# EAGLE library part 5VLX110FF1153 (library xilinx_spartan3_virtex4_and_5)
Xilinx FPGA
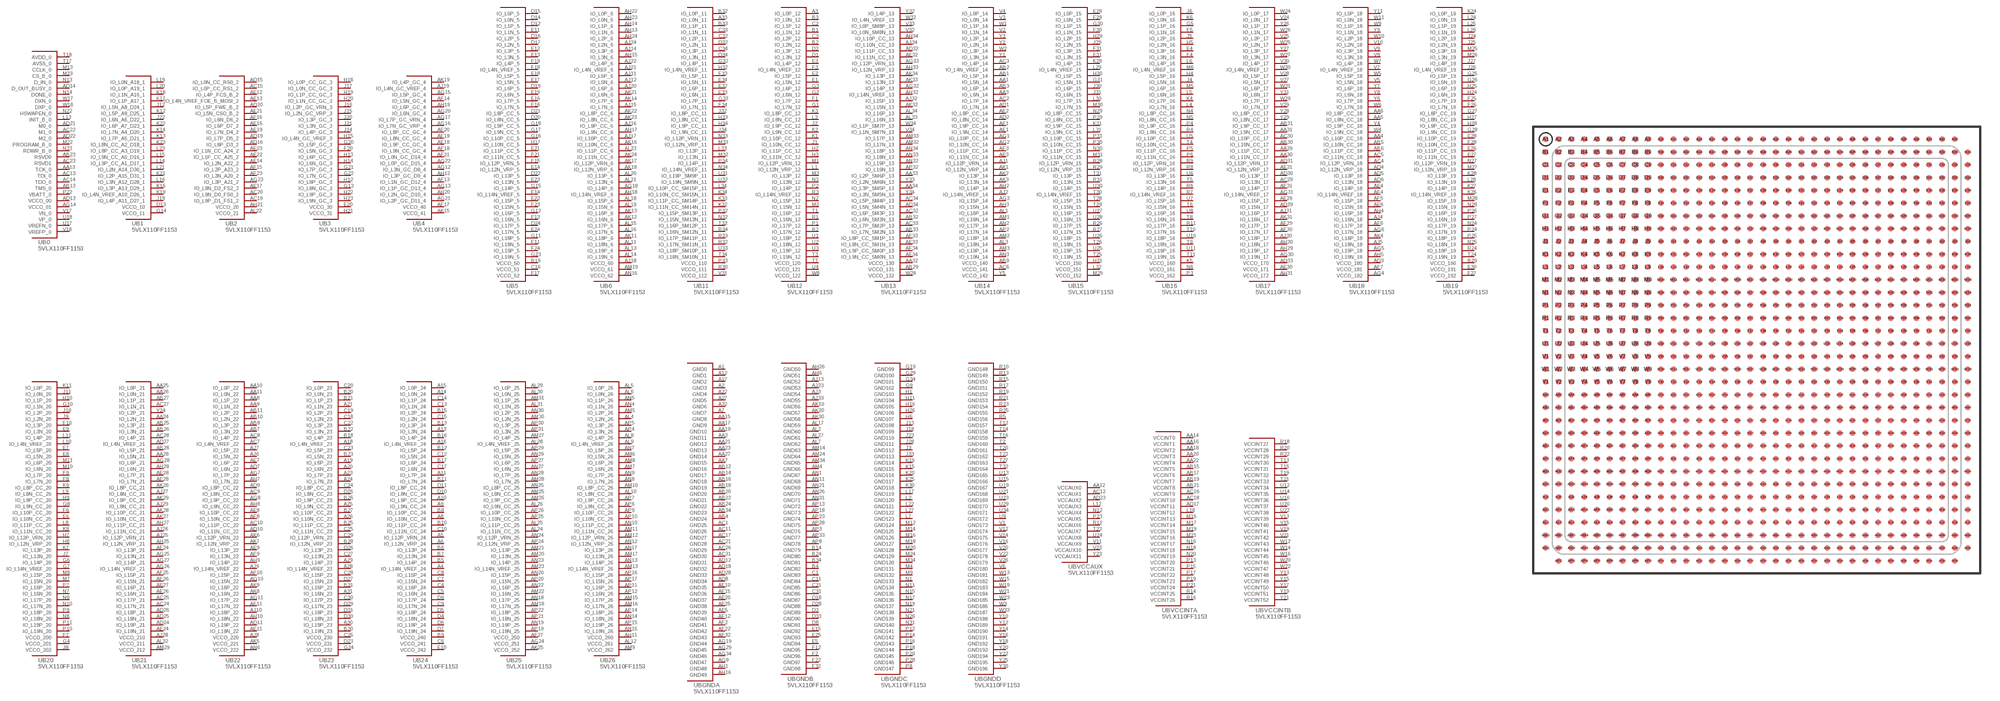
[diagram p99: symbol with the pads of FF1153; footprint FF1153]

Designator prefix U; gates B0=5VLX110FF1153_0 B1=5VLX110FF1153_1 B2=5VLX110FF1153_2 B3=5VLX110FF1153_3 B4=5VLX110FF1153_4 B5=5VLX110FF1153_5 B6=5VLX110FF1153_6 B11=5VLX110FF1153_11 B12=5VLX110FF1153_12 B13=5VLX110FF1153_13 B14=5VLX110FF1153_14 B15=5VLX110FF1153_15 B16=5VLX110FF1153_16 B17=5VLX110FF1153_17 B18=5VLX110FF1153_18 B19=5VLX110FF1153_19 B20=5VLX110FF1153_20 B21=5VLX110FF1153_21 B22=5VLX110FF1153_22 B23=5VLX110FF1153_23 B24=5VLX110FF1153_24 B25=5VLX110FF1153_25 B26=5VLX110FF1153_26 BGNDA=5VLX110FF1153_GNDA BGNDB=5VLX110FF1153_GNDB BGNDC=5VLX110FF1153_GNDC BGNDD=5VLX110FF1153_GNDD BVCCAUX=5VLX110FF1153_VCCAUX BVCCINTA=5VLX110FF1153_VCCINTA BVCCINTB=5VLX110FF1153_VCCINTB

## 5VLX110FF1153  [FF1153]
A1  BGNDA:GND0  pas
A2  BGNDA:GND3  pas
A3  B12:IO_L0P_12
A4  B24:IO_L14N_VREF_24
A5  B24:IO_L12P_VRN_24
A6  B24:IO_L12N_VRP_24
A7  BGNDA:GND7  pas
A8  B24:IO_L10N_CC_24
A9  B24:IO_L9N_CC_24
A10  B24:IO_L9P_CC_24
A11  B24:IO_L7P_24
A12  BGNDA:GND1  pas
A13  B24:IO_L3N_24
A14  B24:IO_L0N_24
A15  B24:IO_L0P_24
A16  B24:IO_L4N_VREF_24
A17  BGNDA:GND2  pas
A18  B23:IO_L4N_VREF_23
A19  B23:IO_L6P_23
A20  B23:IO_L6N_23
A21  B23:IO_L1N_23
A22  BGNDA:GND4  pas
A23  B23:IO_L7P_23
A24  B23:IO_L7N_23
A25  B23:IO_L9N_CC_23
A26  B23:IO_L10N_CC_23
A27  BGNDA:GND5  pas
A28  B23:IO_L14N_VREF_23
A29  B23:IO_L14P_23
A30  B23:IO_L19P_23
A31  B23:IO_L16N_23
A32  BGNDA:GND6  pas
A33  B11:IO_L0N_11
AA1  B14:IO_L5N_14
AA2  BGNDA:GND11  pas
AA3  B14:IO_L6N_14
AA4  B18:IO_L10P_CC_18
AA5  B18:IO_L8N_CC_18
AA6  B18:IO_L8P_CC_18
AA7  BGNDA:GND15  pas
AA8  B22:IO_L1P_22
AA9  B22:IO_L1N_22
AA10  B22:IO_L0P_22
AA11  B22:IO_L0N_22
AA12  BVCCAUX:VCCAUX0  pas
AA13  B0:TCK_0
AA14  BVCCINTA:VCCINT0  pas
AA15  BGNDA:GND8  pas
AA16  BVCCINTA:VCCINT1  pas
AA17  BGNDA:GND9  pas
AA18  BVCCINTA:VCCINT2  pas
AA19  BGNDA:GND10  pas
AA20  BVCCINTA:VCCINT3  pas
AA21  BGNDA:GND12  pas
AA22  BVCCINTA:VCCINT4  pas
AA23  BGNDA:GND13  pas
AA24  B21:IO_L2N_21
AA25  B21:IO_L0P_21
AA26  B21:IO_L0N_21
AA27  BGNDA:GND14  pas
AA28  B21:IO_L5N_21
AA29  B17:IO_L11P_CC_17
AA30  B17:IO_L11N_CC_17
AA31  B17:IO_L9N_CC_17
AA32  B13:VCCO_130  pas
AA33  B13:IO_L2P_SM6P_13
AA34  B13:IO_L3P_SM5P_13
AB1  B14:IO_L5P_14
AB2  B14:IO_L4N_VREF_14
AB3  B14:IO_L6P_14
AB4  BGNDA:GND24  pas
AB5  B18:IO_L10N_CC_18
AB6  B18:IO_L11P_CC_18
AB7  B22:IO_L3N_22
AB8  B22:IO_L3P_22
AB9  B14:VCCO_140  pas
AB10  B22:IO_L2N_22
AB11  B22:IO_L2P_22
AB12  BGNDA:GND16  pas
AB13  B0:TMS_0
AB14  BGNDA:GND17  pas
AB15  BVCCINTA:VCCINT5  pas
AB16  BGNDA:GND18  pas
AB17  BVCCINTA:VCCINT6  pas
AB18  BGNDA:GND19  pas
AB19  BVCCINTA:VCCINT7  pas
AB20  BGNDA:GND20  pas
AB21  BVCCINTA:VCCINT8  pas
AB22  BGNDA:GND21  pas
AB23  B0:RSVD0
AB24  BGNDA:GND22  pas
AB25  B21:IO_L3P_21
AB26  B21:IO_L3N_21
AB27  B21:IO_L1P_21
AB28  B21:IO_L5P_21
AB29  B13:VCCO_131  pas
AB30  B17:IO_L10N_CC_17
AB31  B17:IO_L9P_CC_17
AB32  B13:IO_L6N_SM3N_13
AB33  B13:IO_L7N_SM2N_13
AB34  BGNDA:GND23  pas
AC1  BGNDA:GND25  pas
AC2  B14:IO_L7P_14
AC3  B14:IO_L4P_14
AC4  B18:IO_L12P_VRN_18
AC5  B18:IO_L11N_CC_18
AC6  B14:VCCO_141  pas
AC7  B22:IO_L4N_VREF_22
AC8  B22:IO_L4P_22
AC9  B22:IO_L8N_CC_22
AC10  B22:IO_L11P_CC_22
AC11  BGNDA:GND26  pas
AC12  BVCCAUX:VCCAUX1  pas
AC13  B0:TDI_0
AC14  B0:TDO_0
AC15  B2:IO_L0P_CC_RS1_2
AC16  BVCCINTA:VCCINT9  pas
AC17  BGNDA:GND27  pas
AC18  BVCCINTA:VCCINT10  pas
AC19  B2:IO_L9P_D1_FS1_2
AC20  B2:IO_L9N_D0_FS0_2
AC21  BGNDA:GND28  pas
AC22  B0:M1_0
AC23  B0:RSVD1
AC24  B21:IO_L17N_21
AC25  B21:IO_L17P_21
AC26  BGNDA:GND29  pas
AC27  B21:IO_L1N_21
AC28  B21:IO_L4P_21
AC29  B17:IO_L13N_17
AC30  B17:IO_L10P_CC_17
AC31  BGNDA:GND30  pas
AC32  B13:IO_L6P_SM3P_13
AC33  B13:IO_L7P_SM2P_13
AC34  B13:IO_L5P_SM4P_13
AD1  B14:IO_L7N_14
AD2  B14:IO_L8N_CC_14
AD3  B18:VCCO_180  pas
AD4  B18:IO_L12N_VRP_18
AD5  B18:IO_L13P_18
AD6  B18:IO_L13N_18
AD7  B22:IO_L6N_22
AD8  BGNDA:GND34  pas
AD9  B22:IO_L8P_CC_22
AD10  B22:IO_L11N_CC_22
AD11  B22:IO_L19P_22
AD12  BGNDA:GND31  pas
AD13  B0:VCCO_00  pas
AD14  B0:D_OUT_BUSY_0
AD15  B2:IO_L0N_CC_RS0_2
AD16  B2:IO_L8P_D3_2
AD17  BVCCINTA:VCCINT11  pas
AD18  BGNDA:GND32  pas
AD19  B2:IO_L7P_D5_2
AD20  B2:IO_L5P_FWE_B_2
AD21  B0:M0_0
AD22  B0:M2_0
AD23  BVCCAUX:VCCAUX2  pas
AD24  B21:IO_L19P_21
AD25  B21:IO_L18N_21
AD26  B21:IO_L18P_21
AD27  B21:IO_L4N_VREF_21
AD28  BGNDA:GND33  pas
AD29  B17:IO_L15N_17
AD30  B17:IO_L13P_17
AD31  B17:IO_L12P_VRN_17
AD32  B13:IO_L11P_CC_13
AD33  B17:VCCO_170  pas
AD34  B13:IO_L5N_SM4N_13
AE1  B14:IO_L9N_CC_14
AE2  B14:IO_L8P_CC_14
AE3  B14:IO_L11N_CC_14
AE4  B18:IO_L14P_18
AE5  BGNDA:GND39  pas
AE6  B18:IO_L15N_18
AE7  B22:IO_L6P_22
AE8  B22:IO_L10P_CC_22
AE9  B22:IO_L13P_22
AE10  BGNDA:GND35  pas
AE11  B22:IO_L19N_22
AE12  B2:IO_L4P_FCS_B_2
AE13  B2:IO_L4N_VREF_FOE_B_MOSI_2
AE14  B2:IO_L2N_A22_2
AE15  BGNDA:GND36  pas
AE16  B2:IO_L6P_D7_2
AE17  B2:IO_L8N_D2_FS2_2
AE18  B4:IO_L9P_CC_GC_4
AE19  B2:IO_L7N_D4_2
AE20  BGNDA:GND37  pas
AE21  B2:IO_L5N_CSO_B_2
AE22  B2:IO_L1P_CC_A25_2
AE23  B2:IO_L1N_CC_A24_2
AE24  B21:IO_L19N_21
AE25  BGNDA:GND38  pas
AE26  B21:IO_L16N_21
AE27  B21:IO_L16P_21
AE28  B21:IO_L7P_21
AE29  B17:IO_L15P_17
AE30  B17:VCCO_171  pas
AE31  B17:IO_L12N_VRP_17
AE32  B13:IO_L11N_CC_13
AE33  B13:IO_L8N_CC_SM1N_13
AE34  B13:IO_L9N_CC_SM0N_13
AF1  B14:IO_L9P_CC_14
AF2  BGNDA:GND41  pas
AF3  B14:IO_L11P_CC_14
AF4  B18:IO_L14N_VREF_18
AF5  B18:IO_L15P_18
AF6  B18:IO_L17P_18
AF7  B18:VCCO_181  pas
AF8  B22:IO_L10N_CC_22
AF9  B22:IO_L13N_22
AF10  B22:IO_L15P_22
AF11  B22:IO_L17N_22
AF12  BGNDA:GND40  pas
AF13  B4:IO_L1N_GC_D12_4
AF14  B4:IO_L5N_GC_4
AF15  B2:IO_L2P_A23_2
AF16  B2:IO_L6N_D6_2
AF17  B4:VCCO_40  pas
AF18  B4:IO_L9N_CC_GC_4
AF19  B4:IO_L8N_CC_GC_4
AF20  B4:IO_L8P_CC_GC_4
AF21  B4:IO_L0N_GC_D14_4
AF22  BGNDA:GND42  pas
AF23  B2:IO_L3N_A20_2
AF24  B21:IO_L13P_21
AF25  B21:IO_L15P_21
AF26  B21:IO_L15N_21
AF27  B25:VCCO_250  pas
AF28  B21:IO_L7N_21
AF29  B17:IO_L17P_17
AF30  B17:IO_L17N_17
AF31  B17:IO_L14P_17
AF32  BGNDA:GND43  pas
AF33  B13:IO_L8P_CC_SM1P_13
AF34  B13:IO_L9P_CC_SM0P_13
AG1  B14:IO_L10P_CC_14
AG2  B14:IO_L10N_CC_14
AG3  B14:IO_L15P_14
AG4  B18:VCCO_182  pas
AG5  B18:IO_L19P_18
AG6  B18:IO_L17N_18
AG7  B22:IO_L7P_22
AG8  B22:IO_L9P_CC_22
AG9  BGNDA:GND47  pas
AG10  B22:IO_L15N_22
AG11  B22:IO_L17P_22
AG12  B4:IO_L3N_GC_D8_4
AG13  B4:IO_L1P_GC_D13_4
AG14  B0:VCCO_01  pas
AG15  B4:IO_L5P_GC_4
AG16  B4:IO_L7N_GC_VRP_4
AG17  B4:IO_L7P_GC_VRN_4
AG18  B6:IO_L14P_6
AG19  BGNDA:GND44  pas
AG20  B4:IO_L6N_GC_4
AG21  B4:IO_L2P_GC_D11_4
AG22  B4:IO_L0P_GC_D15_4
AG23  B2:IO_L3P_A21_2
AG24  B25:VCCO_251  pas
AG25  B21:IO_L13N_21
AG26  B21:IO_L14N_VREF_21
AG27  B21:IO_L14P_21
AG28  B21:IO_L6P_21
AG29  BGNDA:GND45  pas
AG30  B17:IO_L19N_17
AG31  B17:IO_L14N_VREF_17
AG32  B13:IO_L14P_13
AG33  B13:IO_L12P_VRN_13
AG34  BGNDA:GND46  pas
AH1  BGNDA:GND48  pas
AH2  B14:IO_L14P_14
AH3  B14:IO_L15N_14
AH4  B18:IO_L16P_18
AH5  B18:IO_L19N_18
AH6  BGNDB:GND51  pas
AH7  B22:IO_L7N_22
AH8  B22:IO_L9N_CC_22
AH9  B22:IO_L14P_22
AH10  B22:IO_L18N_22
AH11  B26:VCCO_260  pas
AH12  B4:IO_L3P_GC_D9_4
AH13  B6:IO_L1N_6
AH14  B6:IO_L1P_6
AH15  B6:IO_L3N_6
AH16  BGNDA:GND49  pas
AH17  B6:IO_L9N_CC_6
AH18  B6:IO_L14N_VREF_6
AH19  B4:IO_L6P_GC_4
AH20  B4:IO_L2N_GC_D10_4
AH21  B2:VCCO_20  pas
AH22  B6:IO_L0P_6
AH23  B6:IO_L0N_6
AH24  B6:IO_L2P_6
AH25  B21:IO_L12N_VRP_21
AH26  BGNDB:GND50  pas
AH27  B21:IO_L11P_CC_21
AH28  B21:IO_L6N_21
AH29  B17:IO_L19P_17
AH30  B17:IO_L18N_17
AH31  B17:VCCO_172  pas
AH32  B13:IO_L14N_VREF_13
AH33  B13:IO_L12N_VRP_13
AH34  B13:IO_L10P_CC_13
AJ1  B14:IO_L12P_VRN_14
AJ2  B14:IO_L14N_VREF_14
AJ3  BGNDB:GND54  pas
AJ4  B18:IO_L16N_18
AJ5  B18:IO_L18N_18
AJ6  B22:IO_L5N_22
AJ7  B22:IO_L5P_22
AJ8  B22:VCCO_220  pas
AJ9  B22:IO_L14N_VREF_22
AJ10  B22:IO_L18P_22
AJ11  B6:IO_L5P_6
AJ12  B6:IO_L5N_6
AJ13  BGNDB:GND52  pas
AJ14  B6:IO_L3P_6
AJ15  B6:IO_L7N_6
AJ16  B6:IO_L9P_CC_6
AJ17  B6:IO_L10P_CC_6
AJ18  B6:VCCO_60  pas
AJ19  B4:IO_L4N_GC_VREF_4
AJ20  B6:IO_L6P_6
AJ21  B6:IO_L4N_VREF_6
AJ22  B6:IO_L4P_6
AJ23  BGNDB:GND53  pas
AJ24  B6:IO_L2N_6
AJ25  B21:IO_L12P_VRN_21
AJ26  B21:IO_L11N_CC_21
AJ27  B21:IO_L8N_CC_21
AJ28  B21:VCCO_210  pas
AJ29  B21:IO_L9N_CC_21
AJ30  B17:IO_L18P_17
AJ31  B17:IO_L16P_17
AJ32  B13:IO_L15P_13
AJ33  BGNDB:GND55  pas
AJ34  B13:IO_L10N_CC_13
AK1  B14:IO_L12N_VRP_14
AK2  B14:IO_L13P_14
AK3  B14:IO_L13N_14
AK4  B18:IO_L18P_18
AK5  B22:VCCO_221  pas
AK6  B22:IO_L12P_VRN_22
AK7  B22:IO_L12N_VRP_22
AK8  B22:IO_L16N_22
AK9  B22:IO_L16P_22
AK10  BGNDB:GND56  pas
AK11  B6:IO_L18P_6
AK12  B6:IO_L16N_6
AK13  B6:IO_L16P_6
AK14  B6:IO_L7P_6
AK15  B4:VCCO_41  pas
AK16  B6:IO_L10N_CC_6
AK17  B6:IO_L12P_VRN_6
AK18  B6:IO_L12N_VRP_6
AK19  B4:IO_L4P_GC_4
AK20  BGNDB:GND57  pas
AK21  B6:IO_L6N_6
AK22  B6:IO_L8P_CC_6
AK23  B6:IO_L8N_CC_6
AK24  B6:IO_L11N_CC_6
AK25  B25:VCCO_252  pas
AK26  B21:IO_L8P_CC_21
AK27  B21:IO_L10N_CC_21
AK28  B21:IO_L10P_CC_21
AK29  B21:IO_L9P_CC_21
AK30  BGNDB:GND58  pas
AK31  B17:IO_L16N_17
AK32  B13:IO_L15N_13
AK33  B13:IO_L13N_13
AK34  B13:IO_L13P_13
AL1  B14:IO_L16P_14
AL2  BGNDB:GND60  pas
AL3  B14:IO_L18N_14
AL4  B26:IO_L2N_26
AL5  B26:IO_L0P_26
AL6  B26:IO_L0N_26
AL7  BGNDB:GND62  pas
AL8  B26:IO_L4P_26
AL9  B26:IO_L4N_VREF_26
AL10  B26:IO_L8N_CC_26
AL11  B6:IO_L18N_6
AL12  B26:VCCO_261  pas
AL13  B6:IO_L19P_6
AL14  B6:IO_L19N_6
AL15  B6:IO_L17P_6
AL16  B6:IO_L17N_6
AL17  BGNDB:GND59  pas
AL18  B6:IO_L15P_6
AL19  B6:IO_L15N_6
AL20  B6:IO_L13P_6
AL21  B6:IO_L13N_6
AL22  B2:VCCO_21  pas
AL23  B6:IO_L11P_CC_6
AL24  B25:IO_L11N_CC_25
AL25  B25:IO_L11P_CC_25
AL26  B25:IO_L9N_CC_25
AL27  BGNDB:GND61  pas
AL28  B25:IO_L4N_VREF_25
AL29  B25:IO_L0P_25
AL30  B25:IO_L0N_25
AL31  B25:IO_L1N_25
AL32  B21:VCCO_211  pas
AL33  B13:IO_L16N_13
AL34  B13:IO_L16P_13
AM1  B14:IO_L16N_14
AM2  B14:IO_L18P_14
AM3  B14:IO_L19P_14
AM4  BGNDB:GND66  pas
AM5  B26:IO_L2P_26
AM6  B26:IO_L5N_26
AM7  B26:IO_L6N_26
AM8  B26:IO_L6P_26
AM9  B26:VCCO_262  pas
AM10  B26:IO_L8P_CC_26
AM11  B26:IO_L11N_CC_26
AM12  B26:IO_L12P_VRN_26
AM13  B26:IO_L14N_VREF_26
AM14  BGNDB:GND63  pas
AM15  B26:IO_L17P_26
AM16  B26:IO_L17N_26
AM17  B26:IO_L13N_26
AM18  B25:IO_L17N_25
AM19  B6:VCCO_61  pas
AM20  B25:IO_L13N_25
AM21  B25:IO_L13P_25
AM22  B25:IO_L16N_25
AM23  B25:IO_L14N_VREF_25
AM24  BGNDB:GND64  pas
AM25  B25:IO_L8N_CC_25
AM26  B25:IO_L9P_CC_25
AM27  B25:IO_L4P_25
AM28  B25:IO_L7N_25
AM29  B21:VCCO_212  pas
AM30  B25:IO_L2N_25
AM31  B25:IO_L1P_25
AM32  B13:IO_L17N_13
AM33  B13:IO_L17P_13
AM34  BGNDB:GND65  pas
AN1  BGNDB:GND67  pas
AN2  B14:IO_L17P_14
AN3  B14:IO_L19N_14
AN4  B26:IO_L1N_26
AN5  B26:IO_L1P_26
AN6  B22:VCCO_222  pas
AN7  B26:IO_L5P_26
AN8  B26:IO_L7N_26
AN9  B26:IO_L7P_26
AN10  B26:IO_L11P_CC_26
AN11  BGNDB:GND68  pas
AN12  B26:IO_L12N_VRP_26
AN13  B26:IO_L14P_26
AN14  B26:IO_L18N_26
AN15  B26:IO_L19N_26
AN16  B6:VCCO_62  pas
AN17  B26:IO_L13P_26
AN18  B25:IO_L17P_25
AN19  B25:IO_L19P_25
AN20  B25:IO_L15P_25
AN21  BGNDB:GND69  pas
AN22  B25:IO_L16P_25
AN23  B25:IO_L14P_25
AN24  B25:IO_L12P_VRN_25
AN25  B25:IO_L8P_CC_25
AN26  BGNDB:GND70  pas
AN27  B25:IO_L6N_25
AN28  B25:IO_L7P_25
AN29  B25:IO_L5N_25
AN30  B25:IO_L2P_25
AN31  BGNDB:GND71  pas
AN32  B13:IO_L19P_13
AN33  B13:IO_L18N_13
AN34  B13:IO_L18P_13
AP2  B14:IO_L17N_14
AP3  BGNDB:GND76  pas
AP4  B26:IO_L3N_26
AP5  B26:IO_L3P_26
AP6  B26:IO_L9N_CC_26
AP7  B26:IO_L9P_CC_26
AP8  BGNDB:GND78  pas
AP9  B26:IO_L10P_CC_26
AP10  B26:IO_L10N_CC_26
AP11  B26:IO_L16P_26
AP12  B26:IO_L16N_26
AP13  BGNDB:GND72  pas
AP14  B26:IO_L18P_26
AP15  B26:IO_L19P_26
AP16  B26:IO_L15P_26
AP17  B26:IO_L15N_26
AP18  BGNDB:GND73  pas
AP19  B25:IO_L19N_25
AP20  B25:IO_L15N_25
AP21  B25:IO_L18N_25
AP22  B25:IO_L18P_25
AP23  BGNDB:GND74  pas
AP24  B25:IO_L12N_VRP_25
AP25  B25:IO_L10N_CC_25
AP26  B25:IO_L10P_CC_25
AP27  B25:IO_L6P_25
AP28  BGNDB:GND75  pas
AP29  B25:IO_L5P_25
AP30  B25:IO_L3P_25
AP31  B25:IO_L3N_25
AP32  B13:IO_L19N_13
AP33  BGNDB:GND77  pas
B1  B12:IO_L1N_12
B2  B12:IO_L2N_12
B3  B12:IO_L0N_12
B4  BGNDB:GND82  pas
B5  B24:IO_L14P_24
B6  B24:IO_L13P_24
B7  B24:IO_L13N_24
B8  B24:IO_L10P_CC_24
B9  B24:VCCO_240  pas
B10  B24:IO_L11P_CC_24
B11  B24:IO_L7N_24
B12  B24:IO_L5P_24
B13  B24:IO_L3P_24
B14  BGNDB:GND79  pas
B15  B24:IO_L2P_24
B16  B24:IO_L4P_24
B17  B24:IO_L6P_24
B18  B23:IO_L4P_23
B19  B5:VCCO_50  pas
B20  B23:IO_L0N_23
B21  B23:IO_L1P_23
B22  B23:IO_L3N_23
B23  B23:IO_L5N_23
B24  BGNDB:GND80  pas
B25  B23:IO_L11P_CC_23
B26  B23:IO_L9P_CC_23
B27  B23:IO_L10P_CC_23
B28  B23:IO_L12N_VRP_23
B29  B19:VCCO_190  pas
B30  B23:IO_L19N_23
B31  B23:IO_L16P_23
B32  B11:IO_L0P_11
B33  B11:IO_L1P_11
B34  BGNDB:GND81  pas
C1  BGNDB:GND83  pas
C2  B12:IO_L1P_12
C3  B12:IO_L2P_12
C4  B24:IO_L16P_24
C5  B24:IO_L16N_24
C6  B24:VCCO_241  pas
C7  B24:IO_L15N_24
C8  B24:IO_L15P_24
C9  B24:IO_L17N_24
C10  B24:IO_L11N_CC_24
C11  BGNDB:GND84  pas
C12  B24:IO_L5N_24
C13  B24:IO_L1N_24
C14  B24:IO_L1P_24
C15  B24:IO_L2N_24
C16  B5:VCCO_51  pas
C17  B24:IO_L6N_24
C18  B23:IO_L2N_23
C19  B23:IO_L2P_23
C20  B23:IO_L0P_23
C21  BGNDB:GND85  pas
C22  B23:IO_L3P_23
C23  B23:IO_L5P_23
C24  B23:IO_L8P_CC_23
C25  B23:IO_L11N_CC_23
C26  B23:VCCO_230  pas
C27  B23:IO_L13N_23
C28  B23:IO_L15P_23
C29  B23:IO_L12P_VRN_23
C30  B23:IO_L17P_23
C31  BGNDB:GND86  pas
C32  B11:IO_L2P_11
C33  B11:IO_L1N_11
C34  B11:IO_L3P_11
D1  B12:IO_L3N_12
D2  B12:IO_L3P_12
D3  BGNDB:GND89  pas
D4  B24:IO_L18N_24
D5  B24:IO_L18P_24
D6  B24:IO_L19P_24
D7  B24:IO_L19N_24
D8  BGNDB:GND91  pas
D9  B24:IO_L17P_24
D10  B24:IO_L8N_CC_24
D11  B24:IO_L8P_CC_24
D12  B5:IO_L1P_5
D13  B1:VCCO_10  pas
D14  B5:IO_L0N_5
D15  B5:IO_L0P_5
D16  B5:IO_L2P_5
D17  B5:IO_L2N_5
D18  BGNDB:GND87  pas
D19  B5:IO_L6P_5
D20  B5:IO_L8N_CC_5
D21  B5:IO_L8P_CC_5
D22  B5:IO_L13P_5
D23  B23:VCCO_231  pas
D24  B5:IO_L17P_5
D25  B23:IO_L8N_CC_23
D26  B23:IO_L13P_23
D27  B23:IO_L15N_23
D28  BGNDB:GND88  pas
D29  B23:IO_L17N_23
D30  B23:IO_L18N_23
D31  B23:IO_L18P_23
D32  B11:IO_L2N_11
D33  BGNDB:GND90  pas
D34  B11:IO_L3N_11
E1  B12:IO_L5N_12
E2  B12:IO_L5P_12
E3  B12:IO_L4P_12
E4  B16:IO_L3P_16
E5  BGNDB:GND94  pas
E6  B20:IO_L10N_CC_20
E7  B20:IO_L5P_20
E8  B20:IO_L5N_20
E9  B20:IO_L3N_20
E10  B24:VCCO_242  pas
E11  B5:IO_L1N_5
E12  B5:IO_L3P_5
E13  B5:IO_L3N_5
E14  B5:IO_L12N_VRP_5
E15  BGNDB:GND92  pas
E16  B5:IO_L7P_5
E17  B5:IO_L5N_5
E18  B5:IO_L5P_5
E19  B5:IO_L6N_5
E20  B3:VCCO_30  pas
E21  B5:IO_L11P_CC_5
E22  B5:IO_L15P_5
E23  B5:IO_L13N_5
E24  B5:IO_L17N_5
E25  BGNDB:GND93  pas
E26  B19:IO_L11P_CC_19
E27  B19:IO_L11N_CC_19
E28  B19:IO_L10P_CC_19
E29  B15:IO_L0P_15
E30  B19:VCCO_191  pas
E31  B15:IO_L3N_15
E32  B11:IO_L6P_11
E33  B11:IO_L6N_11
E34  B11:IO_L5N_11
F1  B12:IO_L7P_12
F2  BGNDB:GND96  pas
F3  B12:IO_L4N_VREF_12
F4  B16:IO_L3N_16
F5  B16:IO_L1N_16
F6  B20:IO_L10P_CC_20
F7  B20:VCCO_200  pas
F8  B20:IO_L7N_20
F9  B20:IO_L7P_20
F10  B20:IO_L3P_20
F11  B5:IO_L18N_5
F12  BGNDB:GND95  pas
F13  B5:IO_L16N_5
F14  B5:IO_L14N_VREF_5
F15  B5:IO_L12P_VRN_5
F16  B5:IO_L7N_5
F17  B5:VCCO_52  pas
F18  B5:IO_L4N_VREF_5
F19  B5:IO_L4P_5
F20  B3:IO_L5N_GC_3
F21  B5:IO_L11N_CC_5
F22  BGNDB:GND97  pas
F23  B5:IO_L15N_5
F24  B5:IO_L19P_5
F25  B19:IO_L7P_19
F26  B19:IO_L7N_19
F27  B19:VCCO_192  pas
F28  B19:IO_L10N_CC_19
F29  B15:IO_L0N_15
F30  B15:IO_L1N_15
F31  B15:IO_L3P_15
F32  BGNDB:GND98  pas
F33  B11:IO_L5P_11
F34  B11:IO_L7N_11
G1  B12:IO_L7N_12
G2  B12:IO_L6N_12
G3  B12:IO_L6P_12
G4  B20:VCCO_201  pas
G5  B16:IO_L1P_16
G6  B20:IO_L14P_20
G7  B20:IO_L14N_VREF_20
G8  B20:IO_L9N_CC_20
G9  BGNDC:GND102  pas
G10  B20:IO_L1N_20
G11  B5:IO_L18P_5
G12  B5:IO_L16P_5
G13  B3:IO_L8N_GC_3
G14  B1:VCCO_11  pas
G15  B5:IO_L14P_5
G16  B5:IO_L10P_CC_5
G17  B5:IO_L9N_CC_5
G18  B5:IO_L9P_CC_5
G19  BGNDC:GND99  pas
G20  B3:IO_L5P_GC_3
G21  B3:IO_L7P_GC_3
G22  B3:IO_L7N_GC_3
G23  B5:IO_L19N_5
G24  B23:VCCO_232  pas
G25  B19:IO_L5P_19
G26  B19:IO_L5N_19
G27  B19:IO_L8P_CC_19
G28  B19:IO_L9N_CC_19
G29  BGNDC:GND100  pas
G30  B15:IO_L1P_15
G31  B15:IO_L5N_15
G32  B11:IO_L4P_11
G33  B11:IO_L7P_11
G34  BGNDC:GND101  pas
H1  BGNDC:GND103  pas
H2  B12:IO_L11P_CC_12
H3  B12:IO_L11N_CC_12
H4  B16:IO_L5P_16
H5  B16:IO_L2N_16
H6  BGNDC:GND107  pas
H7  B20:IO_L12P_VRN_20
H8  B20:IO_L12N_VRP_20
H9  B20:IO_L9P_CC_20
H10  B20:IO_L1P_20
H11  BGNDC:GND104  pas
H12  B3:IO_L8P_GC_3
H13  B3:IO_L6P_GC_3
H14  B3:IO_L6N_GC_3
H15  B3:IO_L4N_GC_VREF_3
H16  BGNDC:GND105  pas
H17  B5:IO_L10N_CC_5
H18  B3:IO_L0P_CC_GC_3
H19  B3:IO_L1P_CC_GC_3
H20  B3:IO_L1N_CC_GC_3
H21  B3:VCCO_31  pas
H22  B3:IO_L9P_GC_3
H23  B3:IO_L9N_GC_3
H24  B19:IO_L6N_19
H25  B19:IO_L6P_19
H26  BGNDC:GND106  pas
H27  B19:IO_L8N_CC_19
H28  B19:IO_L9P_CC_19
H29  B15:IO_L2P_15
H30  B15:IO_L5P_15
H31  B15:VCCO_150  pas
H32  B11:IO_L4N_VREF_11
H33  B11:IO_L8N_CC_11
H34  B11:IO_L9P_CC_11
J1  B12:IO_L10N_CC_12
J2  B12:IO_L9P_CC_12
J3  BGNDC:GND112  pas
J4  B16:IO_L5N_16
J5  B16:IO_L2P_16
J6  B16:IO_L0P_16
J7  B20:IO_L13N_20
J8  B20:VCCO_202  pas
J9  B20:IO_L2N_20
J10  B20:IO_L2P_20
J11  B20:IO_L0N_20
J12  B1:IO_L5N_A8_D24_1
J13  BGNDC:GND108  pas
J14  B3:IO_L4P_GC_3
J15  B3:IO_L2N_GC_VRP_3
J16  B3:IO_L2P_GC_VRN_3
J17  B3:IO_L0N_CC_GC_3
J18  BGNDC:GND109  pas
J19  B1:IO_L4P_A11_D27_1
J20  B3:IO_L3P_GC_3
J21  B3:IO_L3N_GC_3
J22  B1:IO_L6N_A6_D22_1
J23  BGNDC:GND110  pas
J24  B19:IO_L2P_19
J25  B19:IO_L2N_19
J26  B19:IO_L4N_VREF_19
J27  B19:IO_L4P_19
J28  BGNDC:GND111  pas
J29  B15:IO_L2N_15
J30  B15:IO_L6P_15
J31  B15:IO_L6N_15
J32  B11:IO_L8P_CC_11
J33  BGNDC:GND113  pas
J34  B11:IO_L9N_CC_11
K1  B12:IO_L10P_CC_12
K2  B12:IO_L9N_CC_12
K3  B12:IO_L8P_CC_12
K4  B16:IO_L7P_16
K5  B16:VCCO_160  pas
K6  B16:IO_L0N_16
K7  B20:IO_L13P_20
K8  B20:IO_L11N_CC_20
K9  B20:IO_L8P_CC_20
K10  BGNDC:GND114  pas
K11  B20:IO_L0P_20
K12  B1:IO_L5P_A9_D25_1
K13  B1:IO_L7P_A5_D21_1
K14  B1:IO_L7N_A4_D20_1
K15  BGNDC:GND115  pas
K16  B1:IO_L3P_A13_D29_1
K17  B1:IO_L1P_A17_1
K18  B1:IO_L1N_A16_1
K19  B1:IO_L4N_VREF_A10_D26_1
K20  BGNDC:GND116  pas
K21  B1:IO_L2P_A15_D31_1
K22  B1:IO_L6P_A7_D23_1
K23  B1:IO_L8N_CC_A2_D18_1
K24  B19:IO_L0P_19
K25  BGNDC:GND117  pas
K26  B19:IO_L14N_VREF_19
K27  B19:IO_L14P_19
K28  B19:IO_L13P_19
K29  B15:IO_L4P_15
K30  BGNDC:GND118  pas
K31  B15:IO_L9P_CC_15
K32  B11:IO_L11N_CC_SM14N_11
K33  B11:IO_L11P_CC_SM14P_11
K34  B11:IO_L10N_CC_SM15N_11
L1  B12:IO_L12N_VRP_12
L2  BGNDC:GND120  pas
L3  B12:IO_L8N_CC_12
L4  B16:IO_L7N_16
L5  B16:IO_L6N_16
L6  B16:IO_L4P_16
L7  BGNDC:GND123  pas
L8  B20:IO_L11P_CC_20
L9  B20:IO_L8N_CC_20
L10  B20:IO_L4N_VREF_20
L11  B20:IO_L4P_20
L12  BVCCAUX:VCCAUX3  pas
L13  B0:INIT_B_0
L14  B1:IO_L9P_CC_A1_D17_1
L15  B1:IO_L9N_CC_A0_D16_1
L16  B1:IO_L3N_A12_D28_1
L17  BGNDC:GND119  pas
L18  BVCCINTA:VCCINT12  pas
L19  B1:IO_L0N_A18_1
L20  B1:IO_L0P_A19_1
L21  B1:IO_L2N_A14_D30_1
L22  BGNDC:GND121  pas
L23  B1:IO_L8P_CC_A3_D19_1
L24  B19:IO_L0N_19
L25  B19:IO_L1P_19
L26  B19:IO_L1N_19
L27  BGNDC:GND122  pas
L28  B19:IO_L13N_19
L29  B15:IO_L4N_VREF_15
L30  B15:IO_L7P_15
L31  B15:IO_L9N_CC_15
L32  B15:VCCO_151  pas
L33  B11:IO_L13P_11
L34  B11:IO_L10P_CC_SM15P_11
M1  B12:IO_L12P_VRN_12
M2  B12:IO_L15N_12
M3  B12:IO_L13P_12
M4  BGNDC:GND131  pas
M5  B16:IO_L6P_16
M6  B16:IO_L4N_VREF_16
M7  B20:IO_L15N_20
M8  B20:IO_L15P_20
M9  BGNDC:GND132  pas
M10  B20:IO_L6N_20
M11  B20:IO_L6P_20
M12  BGNDC:GND124  pas
M13  B0:CCLK_0
M14  BGNDC:GND125  pas
M15  BVCCINTA:VCCINT13  pas
M16  BGNDC:GND126  pas
M17  BVCCINTA:VCCINT14  pas
M18  BGNDC:GND127  pas
M19  BVCCINTA:VCCINT15  pas
M20  BGNDC:GND128  pas
M21  BVCCINTA:VCCINT16  pas
M22  B0:PROGRAM_B_0
M23  B0:CS_B_0
M24  BGNDC:GND129  pas
M25  B19:IO_L3P_19
M26  B19:IO_L3N_19
M27  B19:IO_L12N_VRP_19
M28  B19:IO_L15P_19
M29  B15:VCCO_152  pas
M30  B15:IO_L7N_15
M31  B15:IO_L11N_CC_15
M32  B11:IO_L13N_11
M33  B11:IO_L12N_VRP_11
M34  BGNDC:GND130  pas
N1  BGNDC:GND133  pas
N2  B12:IO_L15P_12
N3  B12:IO_L13N_12
N4  B16:IO_L8P_CC_16
N5  B16:IO_L8N_CC_16
N6  B16:VCCO_161  pas
N7  B20:IO_L16N_20
N8  B20:IO_L18N_20
N9  B20:IO_L17P_20
N10  B20:IO_L17N_20
N11  BGNDC:GND134  pas
N12  BVCCAUX:VCCAUX4  pas
N13  B0:D_IN_0
N14  B0:DONE_0
N15  BGNDC:GND135  pas
N16  BVCCINTA:VCCINT17  pas
N17  BGNDC:GND136  pas
N18  BVCCINTA:VCCINT18  pas
N19  BGNDC:GND137  pas
N20  BVCCINTA:VCCINT19  pas
N21  BGNDC:GND138  pas
N22  B0:HSWAPEN_0
N23  B0:RDWR_B_0
N24  B19:IO_L17P_19
N25  B19:IO_L18N_19
N26  BGNDC:GND139  pas
N27  B19:IO_L12P_VRN_19
N28  B19:IO_L15N_19
N29  B15:IO_L8P_CC_15
N30  B15:IO_L11P_CC_15
N31  BGNDC:GND140  pas
N32  B11:IO_L15N_SM13N_11
N33  B11:IO_L12P_VRN_11
N34  B11:IO_L14N_VREF_11
P1  B12:IO_L17P_12
P2  B12:IO_L14P_12
P3  B16:VCCO_162  pas
P4  B16:IO_L9P_CC_16
P5  B16:IO_L11P_CC_16
P6  B16:IO_L11N_CC_16
P7  B20:IO_L16P_20
P8  BGNDC:GND147  pas
P9  B20:IO_L18P_20
P10  B20:IO_L19N_20
P11  B20:IO_L19P_20
P12  BGNDC:GND141  pas
P13  BVCCINTA:VCCINT20  pas
P14  BGNDC:GND142  pas
P15  BVCCINTA:VCCINT21  pas
P16  BGNDC:GND143  pas
P17  BVCCINTA:VCCINT22  pas
P18  BGNDC:GND144  pas
P19  BVCCINTA:VCCINT23  pas
P20  BGNDC:GND145  pas
P21  BVCCINTA:VCCINT24  pas
P22  B0:VBATT_0
P23  BVCCAUX:VCCAUX5  pas
P24  B19:IO_L17N_19
P25  B19:IO_L18P_19
P26  B19:IO_L16P_19
P27  B19:IO_L16N_19
P28  BGNDC:GND146  pas
P29  B15:IO_L8N_CC_15
P30  B15:IO_L10N_CC_15
P31  B15:IO_L10P_CC_15
P32  B11:IO_L15P_SM13P_11
P33  B11:VCCO_110  pas
P34  B11:IO_L14P_11
R1  B12:IO_L16N_12
R2  B12:IO_L17N_12
R3  B12:IO_L14N_VREF_12
R4  B16:IO_L9N_CC_16
R5  BGNDD:GND156  pas
R6  B16:IO_L14P_16
R7  B16:IO_L14N_VREF_16
R8  B16:IO_L12N_VRP_16
R9  B16:IO_L12P_VRN_16
R10  BGNDD:GND148  pas
R11  B16:IO_L17P_16
R12  BVCCAUX:VCCAUX6  pas
R13  BGNDD:GND149  pas
R14  BVCCINTA:VCCINT25  pas
R15  BGNDD:GND150  pas
R16  BVCCINTA:VCCINT26  pas
R17  BGNDD:GND151  pas
R18  BVCCINTB:VCCINT27  pas
R19  BGNDD:GND152  pas
R20  BVCCINTB:VCCINT28  pas
R21  BGNDD:GND153  pas
R22  BVCCINTB:VCCINT29  pas
R23  BGNDD:GND154  pas
R24  B19:IO_L19P_19
R25  BGNDD:GND155  pas
R26  B15:IO_L17P_15
R27  B15:IO_L17N_15
R28  B15:IO_L12P_VRN_15
R29  B15:IO_L12N_VRP_15
R30  B11:VCCO_111  pas
R31  B15:IO_L13N_15
R32  B11:IO_L17N_SM11N_11
R33  B11:IO_L17P_SM11P_11
R34  B11:IO_L16N_SM12N_11
T1  B12:IO_L16P_12
T2  BGNDD:GND160  pas
T3  B12:IO_L19N_12
T4  B16:IO_L10N_CC_16
T5  B16:IO_L13N_16
T6  B16:IO_L15N_16
T7  B12:VCCO_120  pas
T8  B16:IO_L16N_16
T9  B16:IO_L18N_16
T10  B16:IO_L17N_16
T11  B16:IO_L19N_16
T12  BGNDD:GND157  pas
T13  BVCCINTB:VCCINT30  pas
T14  BGNDD:GND158  pas
T15  BVCCINTB:VCCINT31  pas
T16  BGNDD:GND159  pas
T17  B0:AVSS_0
T18  B0:AVDD_0
T19  BVCCINTB:VCCINT32  pas
T20  BGNDD:GND161  pas
T21  BVCCINTB:VCCINT33  pas
T22  BGNDD:GND162  pas
T23  BVCCAUX:VCCAUX7  pas
T24  B19:IO_L19N_19
T25  B15:IO_L19N_15
T26  B15:IO_L18N_15
T27  BGNDD:GND163  pas
T28  B15:IO_L15P_15
T29  B15:IO_L15N_15
T30  B15:IO_L14N_VREF_15
T31  B15:IO_L13P_15
T32  BGNDD:GND164  pas
T33  B11:IO_L16P_SM12P_11
T34  B11:IO_L18N_SM10N_11
U1  B12:IO_L18P_12
U2  B12:IO_L18N_12
U3  B12:IO_L19P_12
U4  B12:VCCO_121  pas
U5  B16:IO_L10P_CC_16
U6  B16:IO_L13P_16
U7  B16:IO_L15P_16
U8  B16:IO_L16P_16
U9  BGNDD:GND172  pas
U10  B16:IO_L18P_16
U11  B16:IO_L19P_16
U12  BVCCINTB:VCCINT34  pas
U13  BGNDD:GND165  pas
U14  BVCCINTB:VCCINT35  pas
U15  BGNDD:GND166  pas
U16  BVCCINTB:VCCINT36  pas
U17  B0:VREFN_0
U18  B0:VP_0
U19  BGNDD:GND167  pas
U20  BVCCINTB:VCCINT37  pas
U21  BGNDD:GND168  pas
U22  BVCCINTB:VCCINT38  pas
U23  BGNDD:GND169  pas
U24  BVCCAUX:VCCAUX8  pas
U25  B15:IO_L19P_15
U26  B15:IO_L18P_15
U27  B15:IO_L16P_15
U28  B15:IO_L16N_15
U29  BGNDD:GND170  pas
U30  B15:IO_L14P_15
U31  B11:IO_L19P_SM9P_11
U32  B11:IO_L19N_SM9N_11
U33  B11:IO_L18P_SM10P_11
U34  BGNDD:GND171  pas
V1  BGNDD:GND173  pas
V2  B14:IO_L1N_14
V3  B14:IO_L0N_14
V4  B14:IO_L0P_14
V5  B18:IO_L5N_18
V6  BGNDD:GND180  pas
V7  B18:IO_L4N_VREF_18
V8  B18:IO_L3N_18
V9  B18:IO_L3P_18
V10  B18:IO_L2N_18
V11  BVCCAUX:VCCAUX9  pas
V12  BGNDD:GND174  pas
V13  BVCCINTB:VCCINT39  pas
V14  BGNDD:GND175  pas
V15  BVCCINTB:VCCINT40  pas
V16  BGNDD:GND176  pas
V17  B0:VN_0
V18  B0:VREFP_0
V19  BVCCINTB:VCCINT41  pas
V20  BGNDD:GND177  pas
V21  BVCCINTB:VCCINT42  pas
V22  BGNDD:GND178  pas
V23  BVCCAUX:VCCAUX10  pas
V24  B17:IO_L0N_17
V25  B17:IO_L2P_17
V26  BGNDD:GND179  pas
V27  B17:IO_L5N_17
V28  B17:IO_L5P_17
V29  B17:IO_L7N_17
V30  B17:IO_L4P_17
V31  B11:VCCO_112  pas
V32  B13:IO_L0N_SM8N_13
V33  B13:IO_L0P_SM8P_13
V34  B13:IO_L1N_SM7N_13
W1  B14:IO_L1P_14
W2  B14:IO_L3P_14
W3  BGNDD:GND186  pas
W4  B18:IO_L9N_CC_18
W5  B18:IO_L5P_18
W6  B18:IO_L7N_18
W7  B18:IO_L4P_18
W8  B12:VCCO_122  pas
W9  B18:IO_L1P_18
W10  B18:IO_L2P_18
W11  B18:IO_L0N_18
W12  BVCCINTB:VCCINT43  pas
W13  BGNDD:GND181  pas
W14  BVCCINTB:VCCINT44  pas
W15  BGNDD:GND182  pas
W16  BVCCINTB:VCCINT45  pas
W17  B0:DXN_0
W18  B0:DXP_0
W19  BGNDD:GND183  pas
W20  BVCCINTB:VCCINT46  pas
W21  BGNDD:GND184  pas
W22  BVCCINTB:VCCINT47  pas
W23  BGNDD:GND185  pas
W24  B17:IO_L0P_17
W25  B17:IO_L2N_17
W26  B17:IO_L1N_17
W27  B17:IO_L3N_17
W28  B13:VCCO_132  pas
W29  B17:IO_L7P_17
W30  B17:IO_L4N_VREF_17
W31  B17:IO_L6P_17
W32  B13:IO_L4N_VREF_13
W33  BGNDD:GND187  pas
W34  B13:IO_L1P_SM7P_13
Y1  B14:IO_L3N_14
Y2  B14:IO_L2N_14
Y3  B14:IO_L2P_14
Y4  B18:IO_L9P_CC_18
Y5  B14:VCCO_142  pas
Y6  B18:IO_L7P_18
Y7  B18:IO_L6P_18
Y8  B18:IO_L6N_18
Y9  B18:IO_L1N_18
Y10  BGNDD:GND188  pas
Y11  B18:IO_L0P_18
Y12  BGNDD:GND189  pas
Y13  BVCCINTB:VCCINT48  pas
Y14  BGNDD:GND190  pas
Y15  BVCCINTB:VCCINT49  pas
Y16  BGNDD:GND191  pas
Y17  BVCCINTB:VCCINT50  pas
Y18  BGNDD:GND192  pas
Y19  BVCCINTB:VCCINT51  pas
Y20  BGNDD:GND193  pas
Y21  BVCCINTB:VCCINT52  pas
Y22  BGNDD:GND194  pas
Y23  BVCCAUX:VCCAUX11  pas
Y24  B21:IO_L2P_21
Y25  BGNDD:GND195  pas
Y26  B17:IO_L1P_17
Y27  B17:IO_L3P_17
Y28  B17:IO_L8P_CC_17
Y29  B17:IO_L8N_CC_17
Y30  BGNDD:GND196  pas
Y31  B17:IO_L6N_17
Y32  B13:IO_L4P_13
Y33  B13:IO_L2N_SM6N_13
Y34  B13:IO_L3N_SM5N_13

## Footprint FF1153 (pad centres in mm)
smd 0.45 x 0.45: A1 -16.5,16.5; A2 -15.5,16.5; A3 -14.5,16.5; A4 -13.5,16.5; A5 -12.5,16.5; A6 -11.5,16.5; A7 -10.5,16.5; A8 -9.5,16.5; A9 -8.5,16.5; A10 -7.5,16.5; A11 -6.5,16.5; A12 -5.5,16.5; A13 -4.5,16.5; A14 -3.5,16.5; A15 -2.5,16.5; A16 -1.5,16.5; A17 -0.5,16.5; A18 0.5,16.5; A19 1.5,16.5; A20 2.5,16.5; A21 3.5,16.5; A22 4.5,16.5; A23 5.5,16.5; A24 6.5,16.5; A25 7.5,16.5; A26 8.5,16.5; A27 9.5,16.5; A28 10.5,16.5; A29 11.5,16.5; A30 12.5,16.5; A31 13.5,16.5; A32 14.5,16.5; A33 15.5,16.5; AA1 -16.5,-3.5; AA2 -15.5,-3.5; AA3 -14.5,-3.5; AA4 -13.5,-3.5; AA5 -12.5,-3.5; AA6 -11.5,-3.5; AA7 -10.5,-3.5; AA8 -9.5,-3.5; AA9 -8.5,-3.5; AA10 -7.5,-3.5; AA11 -6.5,-3.5; AA12 -5.5,-3.5; AA13 -4.5,-3.5; AA14 -3.5,-3.5; AA15 -2.5,-3.5; AA16 -1.5,-3.5; AA17 -0.5,-3.5; AA18 0.5,-3.5; AA19 1.5,-3.5; AA20 2.5,-3.5; AA21 3.5,-3.5; AA22 4.5,-3.5; AA23 5.5,-3.5; AA24 6.5,-3.5; AA25 7.5,-3.5; AA26 8.5,-3.5; AA27 9.5,-3.5; AA28 10.5,-3.5; AA29 11.5,-3.5; AA30 12.5,-3.5; AA31 13.5,-3.5; AA32 14.5,-3.5; AA33 15.5,-3.5; AA34 16.5,-3.5; AB1 -16.5,-4.5; AB2 -15.5,-4.5; AB3 -14.5,-4.5; AB4 -13.5,-4.5; AB5 -12.5,-4.5; AB6 -11.5,-4.5; AB7 -10.5,-4.5; AB8 -9.5,-4.5; AB9 -8.5,-4.5; AB10 -7.5,-4.5; AB11 -6.5,-4.5; AB12 -5.5,-4.5; AB13 -4.5,-4.5; AB14 -3.5,-4.5; AB15 -2.5,-4.5; AB16 -1.5,-4.5; AB17 -0.5,-4.5; AB18 0.5,-4.5; AB19 1.5,-4.5; AB20 2.5,-4.5; AB21 3.5,-4.5; AB22 4.5,-4.5; AB23 5.5,-4.5; AB24 6.5,-4.5; AB25 7.5,-4.5; AB26 8.5,-4.5; AB27 9.5,-4.5; AB28 10.5,-4.5; AB29 11.5,-4.5; AB30 12.5,-4.5; AB31 13.5,-4.5; AB32 14.5,-4.5; AB33 15.5,-4.5; AB34 16.5,-4.5; AC1 -16.5,-5.5; AC2 -15.5,-5.5; AC3 -14.5,-5.5; AC4 -13.5,-5.5; AC5 -12.5,-5.5; AC6 -11.5,-5.5; AC7 -10.5,-5.5; AC8 -9.5,-5.5; AC9 -8.5,-5.5; AC10 -7.5,-5.5; AC11 -6.5,-5.5; AC12 -5.5,-5.5; AC13 -4.5,-5.5; AC14 -3.5,-5.5; AC15 -2.5,-5.5; AC16 -1.5,-5.5; AC17 -0.5,-5.5; AC18 0.5,-5.5; AC19 1.5,-5.5; AC20 2.5,-5.5; AC21 3.5,-5.5; AC22 4.5,-5.5; AC23 5.5,-5.5; AC24 6.5,-5.5; AC25 7.5,-5.5; AC26 8.5,-5.5; AC27 9.5,-5.5; AC28 10.5,-5.5; AC29 11.5,-5.5; AC30 12.5,-5.5; AC31 13.5,-5.5; AC32 14.5,-5.5; AC33 15.5,-5.5; AC34 16.5,-5.5; AD1 -16.5,-6.5; AD2 -15.5,-6.5; AD3 -14.5,-6.5; AD4 -13.5,-6.5; AD5 -12.5,-6.5; AD6 -11.5,-6.5; AD7 -10.5,-6.5; AD8 -9.5,-6.5; AD9 -8.5,-6.5; AD10 -7.5,-6.5; AD11 -6.5,-6.5; AD12 -5.5,-6.5; AD13 -4.5,-6.5; AD14 -3.5,-6.5; AD15 -2.5,-6.5; AD16 -1.5,-6.5; AD17 -0.5,-6.5; AD18 0.5,-6.5; AD19 1.5,-6.5; AD20 2.5,-6.5; AD21 3.5,-6.5; AD22 4.5,-6.5; AD23 5.5,-6.5; AD24 6.5,-6.5; AD25 7.5,-6.5; AD26 8.5,-6.5; AD27 9.5,-6.5; AD28 10.5,-6.5; AD29 11.5,-6.5; AD30 12.5,-6.5; AD31 13.5,-6.5; AD32 14.5,-6.5; AD33 15.5,-6.5; AD34 16.5,-6.5; AE1 -16.5,-7.5; AE2 -15.5,-7.5; AE3 -14.5,-7.5; AE4 -13.5,-7.5; AE5 -12.5,-7.5; AE6 -11.5,-7.5; AE7 -10.5,-7.5; AE8 -9.5,-7.5; AE9 -8.5,-7.5; AE10 -7.5,-7.5; AE11 -6.5,-7.5; AE12 -5.5,-7.5; AE13 -4.5,-7.5; AE14 -3.5,-7.5; AE15 -2.5,-7.5; AE16 -1.5,-7.5; AE17 -0.5,-7.5; AE18 0.5,-7.5; AE19 1.5,-7.5; AE20 2.5,-7.5; AE21 3.5,-7.5; AE22 4.5,-7.5; AE23 5.5,-7.5; AE24 6.5,-7.5; AE25 7.5,-7.5; AE26 8.5,-7.5; AE27 9.5,-7.5; AE28 10.5,-7.5; AE29 11.5,-7.5; AE30 12.5,-7.5; AE31 13.5,-7.5; AE32 14.5,-7.5; AE33 15.5,-7.5; AE34 16.5,-7.5; AF1 -16.5,-8.5; AF2 -15.5,-8.5; AF3 -14.5,-8.5; AF4 -13.5,-8.5; AF5 -12.5,-8.5; AF6 -11.5,-8.5; AF7 -10.5,-8.5; AF8 -9.5,-8.5; AF9 -8.5,-8.5; AF10 -7.5,-8.5; AF11 -6.5,-8.5; AF12 -5.5,-8.5; AF13 -4.5,-8.5; AF14 -3.5,-8.5; AF15 -2.5,-8.5; AF16 -1.5,-8.5; AF17 -0.5,-8.5; AF18 0.5,-8.5; AF19 1.5,-8.5; AF20 2.5,-8.5; AF21 3.5,-8.5; AF22 4.5,-8.5; AF23 5.5,-8.5; AF24 6.5,-8.5; AF25 7.5,-8.5; AF26 8.5,-8.5; AF27 9.5,-8.5; AF28 10.5,-8.5; AF29 11.5,-8.5; AF30 12.5,-8.5; AF31 13.5,-8.5; AF32 14.5,-8.5; AF33 15.5,-8.5; AF34 16.5,-8.5; AG1 -16.5,-9.5; AG2 -15.5,-9.5; AG3 -14.5,-9.5; AG4 -13.5,-9.5; AG5 -12.5,-9.5; AG6 -11.5,-9.5; AG7 -10.5,-9.5; AG8 -9.5,-9.5; AG9 -8.5,-9.5; AG10 -7.5,-9.5; AG11 -6.5,-9.5; AG12 -5.5,-9.5; AG13 -4.5,-9.5; AG14 -3.5,-9.5; AG15 -2.5,-9.5; AG16 -1.5,-9.5; AG17 -0.5,-9.5; AG18 0.5,-9.5; AG19 1.5,-9.5; AG20 2.5,-9.5; AG21 3.5,-9.5; AG22 4.5,-9.5; AG23 5.5,-9.5; AG24 6.5,-9.5; AG25 7.5,-9.5; AG26 8.5,-9.5; AG27 9.5,-9.5; AG28 10.5,-9.5; AG29 11.5,-9.5; AG30 12.5,-9.5; AG31 13.5,-9.5; AG32 14.5,-9.5; AG33 15.5,-9.5; AG34 16.5,-9.5; AH1 -16.5,-10.5; AH2 -15.5,-10.5; AH3 -14.5,-10.5; AH4 -13.5,-10.5; AH5 -12.5,-10.5; AH6 -11.5,-10.5; AH7 -10.5,-10.5; AH8 -9.5,-10.5; AH9 -8.5,-10.5; AH10 -7.5,-10.5; AH11 -6.5,-10.5; AH12 -5.5,-10.5; AH13 -4.5,-10.5; AH14 -3.5,-10.5; AH15 -2.5,-10.5; AH16 -1.5,-10.5; AH17 -0.5,-10.5; AH18 0.5,-10.5; AH19 1.5,-10.5; AH20 2.5,-10.5; AH21 3.5,-10.5; AH22 4.5,-10.5; AH23 5.5,-10.5; AH24 6.5,-10.5; AH25 7.5,-10.5; AH26 8.5,-10.5; AH27 9.5,-10.5; AH28 10.5,-10.5; AH29 11.5,-10.5; AH30 12.5,-10.5; AH31 13.5,-10.5; AH32 14.5,-10.5; AH33 15.5,-10.5; AH34 16.5,-10.5; AJ1 -16.5,-11.5; AJ2 -15.5,-11.5; AJ3 -14.5,-11.5; AJ4 -13.5,-11.5; AJ5 -12.5,-11.5; AJ6 -11.5,-11.5; AJ7 -10.5,-11.5; AJ8 -9.5,-11.5; AJ9 -8.5,-11.5; AJ10 -7.5,-11.5; AJ11 -6.5,-11.5; AJ12 -5.5,-11.5; AJ13 -4.5,-11.5; AJ14 -3.5,-11.5; AJ15 -2.5,-11.5; AJ16 -1.5,-11.5; AJ17 -0.5,-11.5; AJ18 0.5,-11.5; AJ19 1.5,-11.5; AJ20 2.5,-11.5; AJ21 3.5,-11.5; AJ22 4.5,-11.5; AJ23 5.5,-11.5; AJ24 6.5,-11.5; AJ25 7.5,-11.5; AJ26 8.5,-11.5; AJ27 9.5,-11.5; AJ28 10.5,-11.5; AJ29 11.5,-11.5; AJ30 12.5,-11.5; AJ31 13.5,-11.5; AJ32 14.5,-11.5; AJ33 15.5,-11.5; AJ34 16.5,-11.5; AK1 -16.5,-12.5; AK2 -15.5,-12.5; AK3 -14.5,-12.5; AK4 -13.5,-12.5; AK5 -12.5,-12.5; AK6 -11.5,-12.5; AK7 -10.5,-12.5; AK8 -9.5,-12.5; AK9 -8.5,-12.5; AK10 -7.5,-12.5; AK11 -6.5,-12.5; AK12 -5.5,-12.5; AK13 -4.5,-12.5; AK14 -3.5,-12.5; AK15 -2.5,-12.5; AK16 -1.5,-12.5; AK17 -0.5,-12.5; AK18 0.5,-12.5; AK19 1.5,-12.5; AK20 2.5,-12.5; AK21 3.5,-12.5; AK22 4.5,-12.5; AK23 5.5,-12.5; AK24 6.5,-12.5; AK25 7.5,-12.5; AK26 8.5,-12.5; AK27 9.5,-12.5; AK28 10.5,-12.5; AK29 11.5,-12.5; AK30 12.5,-12.5; AK31 13.5,-12.5; AK32 14.5,-12.5; AK33 15.5,-12.5; AK34 16.5,-12.5; AL1 -16.5,-13.5; AL2 -15.5,-13.5; AL3 -14.5,-13.5; AL4 -13.5,-13.5; AL5 -12.5,-13.5; AL6 -11.5,-13.5; AL7 -10.5,-13.5; AL8 -9.5,-13.5; AL9 -8.5,-13.5; AL10 -7.5,-13.5; AL11 -6.5,-13.5; AL12 -5.5,-13.5; AL13 -4.5,-13.5; AL14 -3.5,-13.5; AL15 -2.5,-13.5; AL16 -1.5,-13.5; AL17 -0.5,-13.5; AL18 0.5,-13.5; AL19 1.5,-13.5; AL20 2.5,-13.5; AL21 3.5,-13.5; AL22 4.5,-13.5; AL23 5.5,-13.5; AL24 6.5,-13.5; AL25 7.5,-13.5; AL26 8.5,-13.5; AL27 9.5,-13.5; AL28 10.5,-13.5; AL29 11.5,-13.5; AL30 12.5,-13.5; AL31 13.5,-13.5; AL32 14.5,-13.5; AL33 15.5,-13.5; AL34 16.5,-13.5; AM1 -16.5,-14.5; AM2 -15.5,-14.5; AM3 -14.5,-14.5; AM4 -13.5,-14.5; AM5 -12.5,-14.5; AM6 -11.5,-14.5; AM7 -10.5,-14.5; AM8 -9.5,-14.5; AM9 -8.5,-14.5; AM10 -7.5,-14.5; AM11 -6.5,-14.5; AM12 -5.5,-14.5; AM13 -4.5,-14.5; AM14 -3.5,-14.5; AM15 -2.5,-14.5; AM16 -1.5,-14.5; AM17 -0.5,-14.5; AM18 0.5,-14.5; AM19 1.5,-14.5; AM20 2.5,-14.5; AM21 3.5,-14.5; AM22 4.5,-14.5; AM23 5.5,-14.5; AM24 6.5,-14.5; AM25 7.5,-14.5; AM26 8.5,-14.5; AM27 9.5,-14.5; AM28 10.5,-14.5; AM29 11.5,-14.5; AM30 12.5,-14.5; AM31 13.5,-14.5; AM32 14.5,-14.5; AM33 15.5,-14.5; AM34 16.5,-14.5; AN1 -16.5,-15.5; AN2 -15.5,-15.5; AN3 -14.5,-15.5; AN4 -13.5,-15.5; AN5 -12.5,-15.5; AN6 -11.5,-15.5; AN7 -10.5,-15.5; AN8 -9.5,-15.5; AN9 -8.5,-15.5; AN10 -7.5,-15.5; AN11 -6.5,-15.5; AN12 -5.5,-15.5; AN13 -4.5,-15.5; AN14 -3.5,-15.5; AN15 -2.5,-15.5; AN16 -1.5,-15.5; AN17 -0.5,-15.5; AN18 0.5,-15.5; AN19 1.5,-15.5; AN20 2.5,-15.5; AN21 3.5,-15.5; AN22 4.5,-15.5; AN23 5.5,-15.5; AN24 6.5,-15.5; AN25 7.5,-15.5; AN26 8.5,-15.5; AN27 9.5,-15.5; AN28 10.5,-15.5; AN29 11.5,-15.5; AN30 12.5,-15.5; AN31 13.5,-15.5; AN32 14.5,-15.5; AN33 15.5,-15.5; AN34 16.5,-15.5; AP2 -15.5,-16.5; AP3 -14.5,-16.5; AP4 -13.5,-16.5; AP5 -12.5,-16.5; AP6 -11.5,-16.5; AP7 -10.5,-16.5; AP8 -9.5,-16.5; AP9 -8.5,-16.5; AP10 -7.5,-16.5; AP11 -6.5,-16.5; AP12 -5.5,-16.5; AP13 -4.5,-16.5; AP14 -3.5,-16.5; AP15 -2.5,-16.5; AP16 -1.5,-16.5; AP17 -0.5,-16.5; AP18 0.5,-16.5; AP19 1.5,-16.5; AP20 2.5,-16.5; AP21 3.5,-16.5; AP22 4.5,-16.5; AP23 5.5,-16.5; AP24 6.5,-16.5; AP25 7.5,-16.5; AP26 8.5,-16.5; AP27 9.5,-16.5; AP28 10.5,-16.5; AP29 11.5,-16.5; AP30 12.5,-16.5; AP31 13.5,-16.5; AP32 14.5,-16.5; AP33 15.5,-16.5; B1 -16.5,15.5; B2 -15.5,15.5; B3 -14.5,15.5; B4 -13.5,15.5; B5 -12.5,15.5; B6 -11.5,15.5; B7 -10.5,15.5; B8 -9.5,15.5; B9 -8.5,15.5; B10 -7.5,15.5; B11 -6.5,15.5; B12 -5.5,15.5; B13 -4.5,15.5; B14 -3.5,15.5; B15 -2.5,15.5; B16 -1.5,15.5; B17 -0.5,15.5; B18 0.5,15.5; B19 1.5,15.5; B20 2.5,15.5; B21 3.5,15.5; B22 4.5,15.5; B23 5.5,15.5; B24 6.5,15.5; B25 7.5,15.5; B26 8.5,15.5; B27 9.5,15.5; B28 10.5,15.5; B29 11.5,15.5; B30 12.5,15.5; B31 13.5,15.5; B32 14.5,15.5; B33 15.5,15.5; B34 16.5,15.5; C1 -16.5,14.5; C2 -15.5,14.5; C3 -14.5,14.5; C4 -13.5,14.5; C5 -12.5,14.5; C6 -11.5,14.5; C7 -10.5,14.5; C8 -9.5,14.5; C9 -8.5,14.5; C10 -7.5,14.5; C11 -6.5,14.5; C12 -5.5,14.5; C13 -4.5,14.5; C14 -3.5,14.5; C15 -2.5,14.5; C16 -1.5,14.5; C17 -0.5,14.5; C18 0.5,14.5; C19 1.5,14.5; C20 2.5,14.5; C21 3.5,14.5; C22 4.5,14.5; C23 5.5,14.5; C24 6.5,14.5; C25 7.5,14.5; C26 8.5,14.5; C27 9.5,14.5; C28 10.5,14.5; C29 11.5,14.5; C30 12.5,14.5; C31 13.5,14.5; C32 14.5,14.5; C33 15.5,14.5; C34 16.5,14.5; D1 -16.5,13.5; D2 -15.5,13.5; D3 -14.5,13.5; D4 -13.5,13.5; D5 -12.5,13.5; D6 -11.5,13.5; D7 -10.5,13.5; D8 -9.5,13.5; D9 -8.5,13.5; D10 -7.5,13.5; D11 -6.5,13.5; D12 -5.5,13.5; D13 -4.5,13.5; D14 -3.5,13.5; D15 -2.5,13.5; D16 -1.5,13.5; D17 -0.5,13.5; D18 0.5,13.5; D19 1.5,13.5; D20 2.5,13.5; D21 3.5,13.5; D22 4.5,13.5; D23 5.5,13.5; D24 6.5,13.5; D25 7.5,13.5; D26 8.5,13.5; D27 9.5,13.5; D28 10.5,13.5; D29 11.5,13.5; D30 12.5,13.5; D31 13.5,13.5; D32 14.5,13.5; D33 15.5,13.5; D34 16.5,13.5; E1 -16.5,12.5; E2 -15.5,12.5; E3 -14.5,12.5; E4 -13.5,12.5; E5 -12.5,12.5; E6 -11.5,12.5; E7 -10.5,12.5; E8 -9.5,12.5; E9 -8.5,12.5; E10 -7.5,12.5; E11 -6.5,12.5; E12 -5.5,12.5; E13 -4.5,12.5; E14 -3.5,12.5; E15 -2.5,12.5; E16 -1.5,12.5; E17 -0.5,12.5; E18 0.5,12.5; E19 1.5,12.5; E20 2.5,12.5; E21 3.5,12.5; E22 4.5,12.5; E23 5.5,12.5; E24 6.5,12.5; E25 7.5,12.5; E26 8.5,12.5; E27 9.5,12.5; E28 10.5,12.5; E29 11.5,12.5; E30 12.5,12.5; E31 13.5,12.5; E32 14.5,12.5; E33 15.5,12.5; E34 16.5,12.5; F1 -16.5,11.5; F2 -15.5,11.5; F3 -14.5,11.5; F4 -13.5,11.5; F5 -12.5,11.5; F6 -11.5,11.5; F7 -10.5,11.5; F8 -9.5,11.5; F9 -8.5,11.5; F10 -7.5,11.5; F11 -6.5,11.5; F12 -5.5,11.5; F13 -4.5,11.5; F14 -3.5,11.5; F15 -2.5,11.5; F16 -1.5,11.5; F17 -0.5,11.5; F18 0.5,11.5; F19 1.5,11.5; F20 2.5,11.5; F21 3.5,11.5; F22 4.5,11.5; F23 5.5,11.5; F24 6.5,11.5; F25 7.5,11.5; F26 8.5,11.5; F27 9.5,11.5; F28 10.5,11.5; F29 11.5,11.5; F30 12.5,11.5; F31 13.5,11.5; F32 14.5,11.5; F33 15.5,11.5; F34 16.5,11.5; G1 -16.5,10.5; G2 -15.5,10.5; G3 -14.5,10.5; G4 -13.5,10.5; G5 -12.5,10.5; G6 -11.5,10.5; G7 -10.5,10.5; G8 -9.5,10.5; G9 -8.5,10.5; G10 -7.5,10.5; G11 -6.5,10.5; G12 -5.5,10.5; G13 -4.5,10.5; G14 -3.5,10.5; G15 -2.5,10.5; G16 -1.5,10.5; G17 -0.5,10.5; G18 0.5,10.5; G19 1.5,10.5; G20 2.5,10.5; G21 3.5,10.5; G22 4.5,10.5; G23 5.5,10.5; G24 6.5,10.5; G25 7.5,10.5; G26 8.5,10.5; G27 9.5,10.5; G28 10.5,10.5; G29 11.5,10.5; G30 12.5,10.5; G31 13.5,10.5; G32 14.5,10.5; G33 15.5,10.5; G34 16.5,10.5; H1 -16.5,9.5; H2 -15.5,9.5; H3 -14.5,9.5; H4 -13.5,9.5; H5 -12.5,9.5; H6 -11.5,9.5; H7 -10.5,9.5; H8 -9.5,9.5; H9 -8.5,9.5; H10 -7.5,9.5; H11 -6.5,9.5; H12 -5.5,9.5; H13 -4.5,9.5; H14 -3.5,9.5; H15 -2.5,9.5; H16 -1.5,9.5; H17 -0.5,9.5; H18 0.5,9.5; H19 1.5,9.5; H20 2.5,9.5; H21 3.5,9.5; H22 4.5,9.5; H23 5.5,9.5; H24 6.5,9.5; H25 7.5,9.5; H26 8.5,9.5; H27 9.5,9.5; H28 10.5,9.5; H29 11.5,9.5; H30 12.5,9.5; H31 13.5,9.5; H32 14.5,9.5; H33 15.5,9.5; H34 16.5,9.5; J1 -16.5,8.5; J2 -15.5,8.5; J3 -14.5,8.5; J4 -13.5,8.5; J5 -12.5,8.5; J6 -11.5,8.5; J7 -10.5,8.5; J8 -9.5,8.5; J9 -8.5,8.5; J10 -7.5,8.5; J11 -6.5,8.5; J12 -5.5,8.5; J13 -4.5,8.5; J14 -3.5,8.5; J15 -2.5,8.5; J16 -1.5,8.5; J17 -0.5,8.5; J18 0.5,8.5; J19 1.5,8.5; J20 2.5,8.5; J21 3.5,8.5; J22 4.5,8.5; J23 5.5,8.5; J24 6.5,8.5; J25 7.5,8.5; J26 8.5,8.5; J27 9.5,8.5; J28 10.5,8.5; J29 11.5,8.5; J30 12.5,8.5; J31 13.5,8.5; J32 14.5,8.5; J33 15.5,8.5; J34 16.5,8.5; K1 -16.5,7.5; K2 -15.5,7.5; K3 -14.5,7.5; K4 -13.5,7.5; K5 -12.5,7.5; K6 -11.5,7.5; K7 -10.5,7.5; K8 -9.5,7.5; K9 -8.5,7.5; K10 -7.5,7.5; K11 -6.5,7.5; K12 -5.5,7.5; K13 -4.5,7.5; K14 -3.5,7.5; K15 -2.5,7.5; K16 -1.5,7.5; K17 -0.5,7.5; K18 0.5,7.5; K19 1.5,7.5; K20 2.5,7.5; K21 3.5,7.5; K22 4.5,7.5; K23 5.5,7.5; K24 6.5,7.5; K25 7.5,7.5; K26 8.5,7.5; K27 9.5,7.5; K28 10.5,7.5; K29 11.5,7.5; K30 12.5,7.5; K31 13.5,7.5; K32 14.5,7.5; K33 15.5,7.5; K34 16.5,7.5; L1 -16.5,6.5; L2 -15.5,6.5; L3 -14.5,6.5; L4 -13.5,6.5; L5 -12.5,6.5; L6 -11.5,6.5; L7 -10.5,6.5; L8 -9.5,6.5; L9 -8.5,6.5; L10 -7.5,6.5; L11 -6.5,6.5; L12 -5.5,6.5; L13 -4.5,6.5; L14 -3.5,6.5; L15 -2.5,6.5; L16 -1.5,6.5; L17 -0.5,6.5; L18 0.5,6.5; L19 1.5,6.5; L20 2.5,6.5; L21 3.5,6.5; L22 4.5,6.5; L23 5.5,6.5; L24 6.5,6.5; L25 7.5,6.5; L26 8.5,6.5; L27 9.5,6.5; L28 10.5,6.5; L29 11.5,6.5; L30 12.5,6.5; L31 13.5,6.5; L32 14.5,6.5; L33 15.5,6.5; L34 16.5,6.5; M1 -16.5,5.5; M2 -15.5,5.5; M3 -14.5,5.5; M4 -13.5,5.5; M5 -12.5,5.5; M6 -11.5,5.5; M7 -10.5,5.5; M8 -9.5,5.5; M9 -8.5,5.5; M10 -7.5,5.5; M11 -6.5,5.5; M12 -5.5,5.5; M13 -4.5,5.5; M14 -3.5,5.5; M15 -2.5,5.5; M16 -1.5,5.5; M17 -0.5,5.5; M18 0.5,5.5; M19 1.5,5.5; M20 2.5,5.5; M21 3.5,5.5; M22 4.5,5.5; M23 5.5,5.5; M24 6.5,5.5; M25 7.5,5.5; M26 8.5,5.5; M27 9.5,5.5; M28 10.5,5.5; M29 11.5,5.5; M30 12.5,5.5; M31 13.5,5.5; M32 14.5,5.5; M33 15.5,5.5; M34 16.5,5.5; N1 -16.5,4.5; N2 -15.5,4.5; N3 -14.5,4.5; N4 -13.5,4.5; N5 -12.5,4.5; N6 -11.5,4.5; N7 -10.5,4.5; N8 -9.5,4.5; N9 -8.5,4.5; N10 -7.5,4.5; N11 -6.5,4.5; N12 -5.5,4.5; N13 -4.5,4.5; N14 -3.5,4.5; N15 -2.5,4.5; N16 -1.5,4.5; N17 -0.5,4.5; N18 0.5,4.5; N19 1.5,4.5; N20 2.5,4.5; N21 3.5,4.5; N22 4.5,4.5; N23 5.5,4.5; N24 6.5,4.5; N25 7.5,4.5; N26 8.5,4.5; N27 9.5,4.5; N28 10.5,4.5; N29 11.5,4.5; N30 12.5,4.5; N31 13.5,4.5; N32 14.5,4.5; N33 15.5,4.5; N34 16.5,4.5; P1 -16.5,3.5; P2 -15.5,3.5; P3 -14.5,3.5; P4 -13.5,3.5; P5 -12.5,3.5; P6 -11.5,3.5; P7 -10.5,3.5; P8 -9.5,3.5; P9 -8.5,3.5; P10 -7.5,3.5; P11 -6.5,3.5; P12 -5.5,3.5; P13 -4.5,3.5; P14 -3.5,3.5; P15 -2.5,3.5; P16 -1.5,3.5; P17 -0.5,3.5; P18 0.5,3.5; P19 1.5,3.5; P20 2.5,3.5; P21 3.5,3.5; P22 4.5,3.5; P23 5.5,3.5; P24 6.5,3.5; P25 7.5,3.5; P26 8.5,3.5; P27 9.5,3.5; P28 10.5,3.5; P29 11.5,3.5; P30 12.5,3.5; P31 13.5,3.5; P32 14.5,3.5; P33 15.5,3.5; P34 16.5,3.5; R1 -16.5,2.5; R2 -15.5,2.5; R3 -14.5,2.5; R4 -13.5,2.5; R5 -12.5,2.5; R6 -11.5,2.5; R7 -10.5,2.5; R8 -9.5,2.5; R9 -8.5,2.5; R10 -7.5,2.5; R11 -6.5,2.5; R12 -5.5,2.5; R13 -4.5,2.5; R14 -3.5,2.5; R15 -2.5,2.5; R16 -1.5,2.5; R17 -0.5,2.5; R18 0.5,2.5; R19 1.5,2.5; R20 2.5,2.5; R21 3.5,2.5; R22 4.5,2.5; R23 5.5,2.5; R24 6.5,2.5; R25 7.5,2.5; R26 8.5,2.5; R27 9.5,2.5; R28 10.5,2.5; R29 11.5,2.5; R30 12.5,2.5; R31 13.5,2.5; R32 14.5,2.5; R33 15.5,2.5; R34 16.5,2.5; T1 -16.5,1.5; T2 -15.5,1.5; T3 -14.5,1.5; T4 -13.5,1.5; T5 -12.5,1.5; T6 -11.5,1.5; T7 -10.5,1.5; T8 -9.5,1.5; T9 -8.5,1.5; T10 -7.5,1.5; T11 -6.5,1.5; T12 -5.5,1.5; T13 -4.5,1.5; T14 -3.5,1.5; T15 -2.5,1.5; T16 -1.5,1.5; T17 -0.5,1.5; T18 0.5,1.5; T19 1.5,1.5; T20 2.5,1.5; T21 3.5,1.5; T22 4.5,1.5; T23 5.5,1.5; T24 6.5,1.5; T25 7.5,1.5; T26 8.5,1.5; T27 9.5,1.5; T28 10.5,1.5; T29 11.5,1.5; T30 12.5,1.5; T31 13.5,1.5; T32 14.5,1.5; T33 15.5,1.5; T34 16.5,1.5; U1 -16.5,0.5; U2 -15.5,0.5; U3 -14.5,0.5; U4 -13.5,0.5; U5 -12.5,0.5; U6 -11.5,0.5; U7 -10.5,0.5; U8 -9.5,0.5; U9 -8.5,0.5; U10 -7.5,0.5; U11 -6.5,0.5; U12 -5.5,0.5; U13 -4.5,0.5; U14 -3.5,0.5; U15 -2.5,0.5; U16 -1.5,0.5; U17 -0.5,0.5; U18 0.5,0.5; U19 1.5,0.5; U20 2.5,0.5; U21 3.5,0.5; U22 4.5,0.5; U23 5.5,0.5; U24 6.5,0.5; U25 7.5,0.5; U26 8.5,0.5; U27 9.5,0.5; U28 10.5,0.5; U29 11.5,0.5; U30 12.5,0.5; U31 13.5,0.5; U32 14.5,0.5; U33 15.5,0.5; U34 16.5,0.5; V1 -16.5,-0.5; V2 -15.5,-0.5; V3 -14.5,-0.5; V4 -13.5,-0.5; V5 -12.5,-0.5; V6 -11.5,-0.5; V7 -10.5,-0.5; V8 -9.5,-0.5; V9 -8.5,-0.5; V10 -7.5,-0.5; V11 -6.5,-0.5; V12 -5.5,-0.5; V13 -4.5,-0.5; V14 -3.5,-0.5; V15 -2.5,-0.5; V16 -1.5,-0.5; V17 -0.5,-0.5; V18 0.5,-0.5; V19 1.5,-0.5; V20 2.5,-0.5; V21 3.5,-0.5; V22 4.5,-0.5; V23 5.5,-0.5; V24 6.5,-0.5; V25 7.5,-0.5; V26 8.5,-0.5; V27 9.5,-0.5; V28 10.5,-0.5; V29 11.5,-0.5; V30 12.5,-0.5; V31 13.5,-0.5; V32 14.5,-0.5; V33 15.5,-0.5; V34 16.5,-0.5; W1 -16.5,-1.5; W2 -15.5,-1.5; W3 -14.5,-1.5; W4 -13.5,-1.5; W5 -12.5,-1.5; W6 -11.5,-1.5; W7 -10.5,-1.5; W8 -9.5,-1.5; W9 -8.5,-1.5; W10 -7.5,-1.5; W11 -6.5,-1.5; W12 -5.5,-1.5; W13 -4.5,-1.5; W14 -3.5,-1.5; W15 -2.5,-1.5; W16 -1.5,-1.5; W17 -0.5,-1.5; W18 0.5,-1.5; W19 1.5,-1.5; W20 2.5,-1.5; W21 3.5,-1.5; W22 4.5,-1.5; W23 5.5,-1.5; W24 6.5,-1.5; W25 7.5,-1.5; W26 8.5,-1.5; W27 9.5,-1.5; W28 10.5,-1.5; W29 11.5,-1.5; W30 12.5,-1.5; W31 13.5,-1.5; W32 14.5,-1.5; W33 15.5,-1.5; W34 16.5,-1.5; Y1 -16.5,-2.5; Y2 -15.5,-2.5; Y3 -14.5,-2.5; Y4 -13.5,-2.5; Y5 -12.5,-2.5; Y6 -11.5,-2.5; Y7 -10.5,-2.5; Y8 -9.5,-2.5; Y9 -8.5,-2.5; Y10 -7.5,-2.5; Y11 -6.5,-2.5; Y12 -5.5,-2.5; Y13 -4.5,-2.5; Y14 -3.5,-2.5; Y15 -2.5,-2.5; Y16 -1.5,-2.5; Y17 -0.5,-2.5; Y18 0.5,-2.5; Y19 1.5,-2.5; Y20 2.5,-2.5; Y21 3.5,-2.5; Y22 4.5,-2.5; Y23 5.5,-2.5; Y24 6.5,-2.5; Y25 7.5,-2.5; Y26 8.5,-2.5; Y27 9.5,-2.5; Y28 10.5,-2.5; Y29 11.5,-2.5; Y30 12.5,-2.5; Y31 13.5,-2.5; Y32 14.5,-2.5; Y33 15.5,-2.5; Y34 16.5,-2.5